# Altium footprint library Bat.PcbLib: 4 footprints
Each footprint in its own frame and in the unit in brackets; x right, y up, seen from the top. Pads: shape width x height; smd on the part's side, far side on the other; paste and mask are expansions set on the pad; w line width, h text height; cw(c..) or ccw(c..) is an arc to the next point about the centre after c.
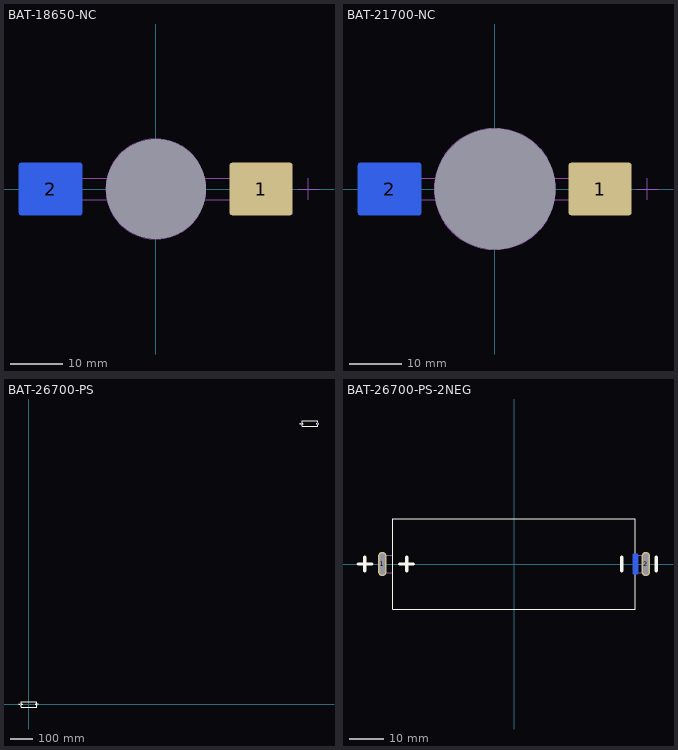
[diagram p0: the footprints below, top view; thin cyan lines are the x and y axes]

## BAT-18650-NC [mm] "Hole for 18650 with two solder Pads for FSCH nightcone project"
pads (3):
  rrect10% 12x10 smd paste-2539.97: 1(20,0)
  rrect10% 12x10 smd far side paste-2539.97: 2(-20,0)
  round 1.4 hole 19 unplated: M15(0,0)
Board:
  circle w0.1: c0,0 r9.5
  text "CUTOUT" at -1.601,9.163 h5
Top Assembly:
  lines w0.2: 27,0 31,0 ; 29,-2 29,2 ; 8.775,-2 cw(c0,0) 8.775,2 ; 8.775,-2 -2,-2 -2,2 8.775,2 ; 8.775,-2 24,-2 24,2 8.775,2
Bottom Assembly (Mech12):
  lines w0.2: -8.775,-2 ccw(c0,0) -8.775,2 ; -8.775,-2 -24,-2 -24,2 -8.775,2 ; -8.775,-2 2,-2 2,2 -8.775,2
3D body: height -57, standoff -57.5, extent -10.5,-2 -10,2
3D body: height 0.5, standoff 0, extent -10.5,-2 -10,2
3D body: height 8.5, standoff 8, extent 10,-2 10.5,2
3D body: height 0.5, standoff 0, extent 10,-2 10.5,2
3D body: height 8.5, standoff 8, extent -2,-2 10.25,2
3D body: height 0.5, standoff 0, extent 10.25,-2 24,2
3D body: height -57, standoff -57.5, extent -10.25,-2 2,2
3D body: height -10, standoff -57.25, extent -10.5,-2 -10,2
3D body: height 0.5, standoff 0, extent -24,-2 -10.25,2
3D body: height 40, standoff 0.25, extent -10.5,-2 -10,2
3D body: height 8.25, standoff 0.25, extent 10,-2 10.5,2
3D body: height 8, standoff -57, extent -9,-9 9,9

## BAT-21700-NC [mm] "Hole for 21700 with two solder Pads for FSCH nightcone project"
pads (3):
  rrect10% 12x10 smd paste-2539.97: 1(20,0)
  rrect10% 12x10 smd far side paste-2539.97: 2(-20,0)
  round 0 hole 23 unplated: M15(0,0)
Board:
  circle w0.1: c0,0 r11.5
  text "CUTOUT" at -1.922,10.999 h6
Top Assembly:
  lines w0.2: 10.308,-2 cw(c0,0) 10.308,2 ; 27,0 31,0 ; 29,-2 29,2 ; -2,-2 -2,2 8.775,2 24,2 24,-2 8.775,-2 -2,-2
Bottom Assembly (Mech12):
  lines w0.2: -10.305,2 -24,2 -24,-2 -10.295,-2 ; -10.308,-2 ccw(c0,0) -10.308,2 2,2 2,-2 -10.308,-2
3D body: height 8.25, standoff 0.25, extent 11.5,-2 12,2
3D body: height 40, standoff 0.25, extent -12,-2 -11.5,2
3D body: height 0.5, standoff 0, extent -24,-2 -11.75,2
3D body: height -10, standoff -62.25, extent -12,-2 -11.5,2
3D body: height -62, standoff -62.5, extent -11.75,-2 2,2
3D body: height 0.5, standoff 0, extent 11.75,-2 24,2
3D body: height 8.5, standoff 8, extent -2,-2 11.75,2
3D body: height 8, standoff -62, extent -10.5,-10.5 10.5,10.5
3D body: height 0.5, standoff 0, extent 11.5,-2 12,2
3D body: height 8.5, standoff 8, extent 11.5,-2 12,2
3D body: height 0.5, standoff 0, extent -12,-2 -11.5,2
3D body: height -62, standoff -62.5, extent -12,-2 -11.5,2

## BAT-26700-PS [mm]
pads (5):
  oval 2.5x7 hole 1.5 slot 6 at 90 deg: 1(-38,0) 1(1232,1270) 2(38,0) 2(1308,1270)
  rrect50% 1.5x6 smd far side paste-2539.97: 3(1305,1270)
Top Overlay:
  lines w0.2: -35,-13 -35,13 35,13 35,-13 -35,-13 ; 1235,1257 1305,1257 1305,1283 1235,1283 1235,1257
  lines w1: -45,0 -41,0 ; -43,-2 -43,2 ; -33,0 -29,0 ; -31,-2 -31,2 ; 31,-2 31,2 ; 41,-2 41,2 ; 1225,1270 1229,1270 ; 1227,1268 1227,1272 ; 1237,1270 1241,1270 ; 1239,1268 1239,1272 ; 1301,1268 1301,1272 ; 1311,1268 1311,1272
Top Assembly:
  lines w0.2: -35,-2.5 -38.2,-2.5 -38.2,2.5 -35,2.5 ; 35,-2.5 38.2,-2.5 38.2,2.5 35,2.5 ; 1235,1267.5 1231.8,1267.5 1231.8,1272.5 1235,1272.5 ; 1305,1267.5 1308.2,1267.5 1308.2,1272.5 1305,1272.5
Bottom Assembly (Mech12):
  lines w0.2: 1305,1267.5 1305,1272.5 1308.2,1272.5 1308.2,1267.5 1305,1267.5
3D body: height 15.51, standoff -2.59, extent 35.1,-2.5 38.1,2.5
3D body: height 26, standoff 0, extent 1235,1257 1305,1283
3D body: height 21, standoff 5, extent 1234.9,1262 1235,1278
3D body: height 24, standoff 2, extent 1305,1259 1305.1,1281
3D body: height 15.51, standoff -2.59, extent 1231.9,1267.5 1234.9,1272.5
3D body: height 15.51, standoff -1.89, extent 1305.1,1267.5 1308.2,1272.5
3D body: height 15.51, standoff -2.59, extent -38.1,-2.5 -35.1,2.5
3D body: height 24, standoff 2, extent 35,-11 35.1,11
3D body: height 21, standoff 5, extent -35.1,-8 -35,8
3D body: height 26, standoff 0, extent -35,-13 35,13

## BAT-26700-PS-2NEG [mm]
pads (3):
  oval 2.5x7 hole 1.5 slot 6 at 90 deg: 1(-38,0) 2(38,0)
  rrect50% 1.5x6 smd far side paste-2539.97: 3(35,0)
Top Overlay:
  lines w0.2: -35,-13 -35,13 35,13 35,-13 -35,-13
  lines w1: -45,0 -41,0 ; -43,-2 -43,2 ; -33,0 -29,0 ; -31,-2 -31,2 ; 31,-2 31,2 ; 41,-2 41,2
Top Assembly:
  lines w0.2: -35,-2.5 -38.2,-2.5 -38.2,2.5 -35,2.5 ; 35,-2.5 38.2,-2.5 38.2,2.5 35,2.5
Bottom Assembly (Mech12):
  lines w0.2: 35,-2.5 38.2,-2.5 38.2,2.5 35,2.5 35,-2.5
3D body: height 15.51, standoff -1.89, extent 35.1,-2.5 38.2,2.5
3D body: height 15.51, standoff -2.59, extent -38.1,-2.5 -35.1,2.5
3D body: height 24, standoff 2, extent 35,-11 35.1,11
3D body: height 21, standoff 5, extent -35.1,-8 -35,8
3D body: height 26, standoff 0, extent -35,-13 35,13